# Altium footprint library Adams Altium Library.PcbLib: 250 footprints (part 10 of 16)
Each footprint in its own frame and in the unit in brackets; x right, y up, seen from the top. Pads: shape width x height; smd on the part's side, far side on the other; paste and mask are expansions set on the pad; w line width, h text height; cw(c..) or ccw(c..) is an arc to the next point about the centre after c.
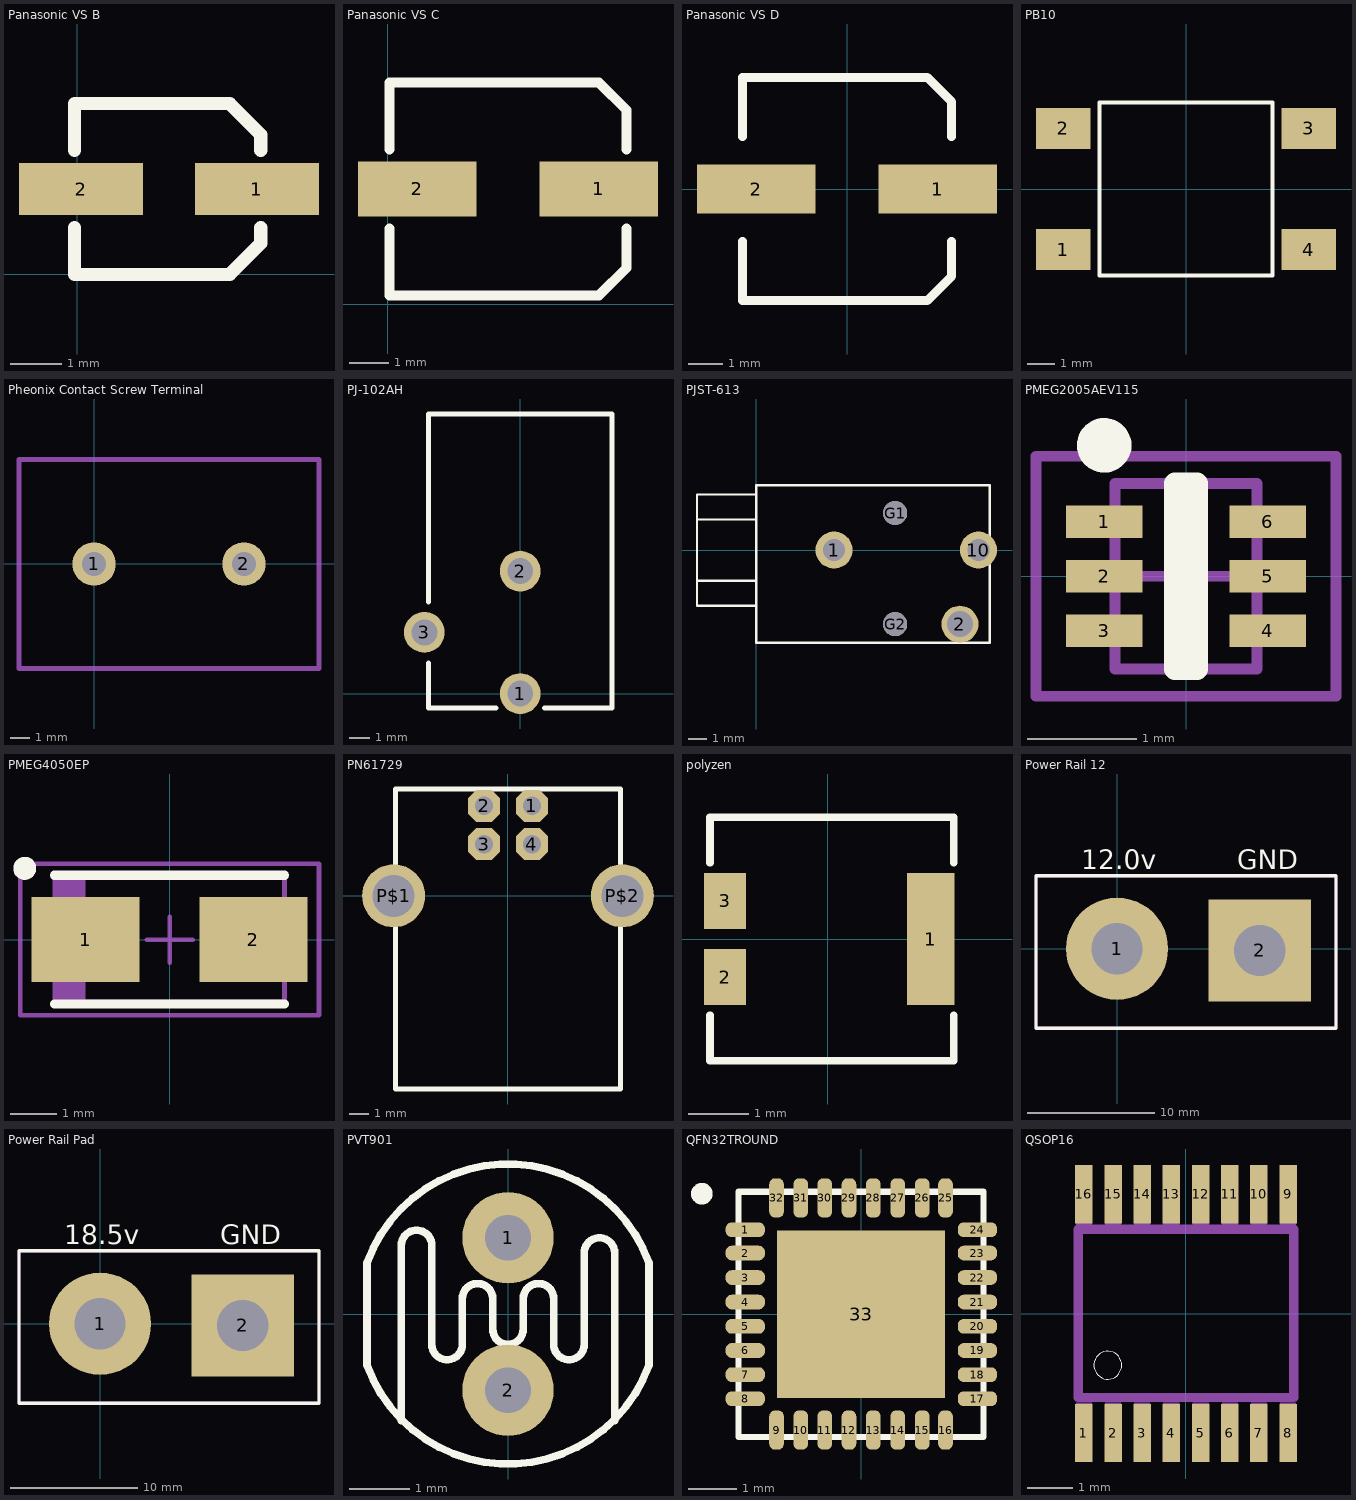
[diagram p9: the footprints below, top view; thin cyan lines are the x and y axes]

## Panasonic VS B [mm]
pads (2):
  rect 2.4x1 smd: 1(3.478,1.651) 2(0.078,1.651)
Top Overlay:
  lines w0.254: -0.047,0.901 -0.047,0.001 2.953,0.001 3.553,0.601 3.553,0.901 ; -0.047,2.401 -0.047,3.301 2.953,3.301 3.553,2.701 3.553,2.401

## Panasonic VS C [mm]
pads (2):
  rect 3x1.4 smd: 1(5.348,2.921) 2(0.748,2.921)
Top Overlay:
  lines w0.254: 0.048,1.921 0.048,0.221 5.348,0.221 6.048,0.921 6.048,1.921 ; 0.048,3.921 0.048,5.621 5.348,5.621 6.048,4.921 6.048,3.921
3D body: height 5.41, standoff 0, extent 0.098,0.288 5.998,5.588

## Panasonic VS D [mm]
pads (2):
  rect 3.4x1.4 smd: 1(2.6,0) 2(-2.6,0)
Top Overlay:
  lines w0.254: -3,-1.5 -3,-3.2 2.3,-3.2 3,-2.5 3,-1.5 ; -3,1.5 -3,3.2 2.3,3.2 3,2.5 3,1.5
3D body: height 5.4, standoff 0, extent -3.5,-3.3 3.5,3.3

## PB10 [mm]
pads (4):
  rect 2x1.5 smd paste-0.15 mask-0.15: 1(-4.5,-2.222) 2(-4.5,2.222) 3(4.5,2.222) 4(4.5,-2.222)
Top Overlay:
  lines w0.152: -3.175,-3.175 -3.175,3.175 3.175,3.175 3.175,-3.175 -3.175,-3.175

## Pheonix Contact Screw Terminal [mm]
height 18
pads (2):
  round 2.2 hole 1.2: 1(0,0) 2(7.61,0)
Mechanical 13:
  lines w0.254: -3.81,-5.3 -3.81,5.3 11.42,5.3 11.42,-5.3 -3.81,-5.3

## PJ-102AH [mm] "Center positive 2.1 mm power jack"
height 11
pads (3):
  round 2 hole 1.27: 1(0,0) 2(0,6) 3(-4.7,3)
Top Overlay:
  lines w0.254: -4.5,1.5 -4.5,-0.7 -1.2,-0.7 ; -4.5,4.5 -4.5,13.7 4.5,13.7 4.5,-0.7 1.2,-0.7
3D body: height 11, standoff 0, extent -5.8,-0.7 4.5,13.7

## PJST-613 [mm]
pads (5):
  round 2 hole 1.2: 1(4.2,0) 10(12,0)
  round 2 hole 1.4: 2(11,-4)
  round 1.3 hole 1.3 unplated: G1(7.5,2) G2(7.5,-4)
Top Overlay:
  lines w0.127: -3.2,-1.651 0,-1.651 ; -3.175,1.651 0,1.651 ; 0,-3.008 -3.2,-3.008 -3.2,3.006 0,3.006 ; 0,-5 12.6,-5 12.6,3.5 0,3.5 0,-5

## PMEG2005AEV115 [mm] "SOT23, 6-Leads, Body 1.7x1.7mm (max), Pitch 0.50mm, IPC Medium Density"
height 0.6
pads (6):
  rect 0.7x0.3 smd: 1(-0.75,0.5) 2(-0.75,0) 3(-0.75,-0.5) 4(0.75,-0.5) 5(0.75,0) 6(0.75,0.5)
Top Overlay:
  circle w0.25: c-0.75,1.2 r0.125
  lines w0.2: -0.1,-0.85 -0.1,0.85 0.1,0.85 0.1,-0.85 -0.1,-0.85
Mechanical 13:
  lines w0.1: -0.65,-0.85 0.65,-0.85 0.65,0.85 -0.65,0.85 -0.65,-0.85
Mechanical 15:
  lines w0.1: -0.5,0 0.5,0 ; 0,-0.5 0,0.5 ; -1.375,-1.1 1.375,-1.1 1.375,1.1 -1.375,1.1 -1.375,-1.1
3D body: height 0.6, standoff 0.5, extent -0.65,-0.85 0.65,0.85

## PMEG4050EP [mm] "PMEG4050EP NXP SMD Schottky Diode"
height 1.1
pads (2):
  rect 2.35x1.85 smd: 1(-1.825,0) 2(1.825,0)
Top Overlay:
  circle w0.25: c-3.15,1.55 r0.125
  lines w0.2: -2.5,-1.4 2.5,-1.4 ; -2.5,1.4 2.5,1.4
Mechanical 13:
  rectangle: -2.5,-1.35 -1.827,1.35
  lines w0.1: -2.5,-1.35 -2.5,1.35 2.5,1.35 2.5,-1.35 -2.5,-1.35
Mechanical 15:
  lines w0.1: -0.5,0 0.5,0 ; 0,-0.5 0,0.5 ; -3.25,-1.65 -3.25,1.65 3.25,1.65 3.25,-1.65 -3.25,-1.65
3D body: height 1.1, standoff 0, extent -2.5,-1.35 2.5,1.35

## PN61729 [mil]
pads (6):
  oct 66x66 hole 38: 1(50,186) 2(-49.21,186) 3(-49.21,107) 4(50,107)
  round 130.5 hole 87: P$1(-236.22,0) P$2(237,0)
Top Overlay:
  lines w10: -232.28,-399.61 -232.28,221 233,221 233,-399.61 -232.28,-399.61
3D body: height 405.51, standoff 27.56, extent -237.28,-404.61 238,226

## polyzen [mm]
pads (3):
  rect 0.8x2.21 smd: 1(1.714,0)
  rect 0.7x0.94 smd: 2(-1.714,-0.635) 3(-1.714,0.635)
Top Overlay:
  lines w0.127: -1.968,-1.27 -1.968,-2.032 2.095,-2.032 2.095,-1.27 ; -1.968,1.27 -1.968,2.032 2.095,2.032 2.095,1.27

## Power Rail 12 [mm]
pads (2):
  round 8 hole 4: 1(0,0)
  rect 8x8 hole 4: 2(11.176,-0.127)
Top Overlay:
  lines w0.254: -6.35,-6.223 17.145,-6.223 17.145,5.715 -6.35,5.715 -6.35,-6.096 -6.35,-6.223
  text "12.0v" at -2.794,6.223 h1.52
  text "GND" at 9.398,6.223 h1.52
Mechanical 13:
  lines w0.254: -6.35,-6.223 17.145,-6.223 17.145,5.715 -6.35,5.715 -6.35,-6.223

## Power Rail Pad [mm] "Custom pad for WAVE power rails"
pads (2):
  round 8 hole 4: 1(0,0)
  rect 8x8 hole 4: 2(11.176,-0.127)
Top Overlay:
  lines w0.254: -6.35,-6.223 17.145,-6.223 17.145,5.715 -6.35,5.715 -6.35,-6.096 -6.35,-6.223
  text "18.5v" at -2.794,6.223 h1.52
  text "GND" at 9.398,6.223 h1.52
Mechanical 13:
  lines w0.254: -6.35,-6.223 17.145,-6.223 17.145,5.715 -6.35,5.715 -6.35,-6.223

## PVT901 [mil]
pads (2):
  round 60 hole 30: 1(0,50) 2(0,-50)
Top Overlay:
  lines w5: -70,-70 -70,45 cw(c-60,45) -50,45 -50,35 -50,-20 ccw(c-40,-20) -30,-20 -30,10 cw(c-20,10) -10,10 -10,-10 ccw(c0,-10) 10,-10 10,10 cw(c20,10) 30,10 30,-20 ccw(c40,-20) 50,-20 50,40 cw(c60,40) 70,40 70,-70 ; -92.49,-33.66 ccw(c0,0) 92.49,-33.66 92.49,33.66 ccw(c0,0) -92.49,33.66 -92.49,-33.66

## QFN32TROUND [mil]
pads (33):
  rrect80% 32x12 smd: 1(-94.49,69) 2(-94.49,50) 3(-94.49,30) 4(-94.49,10) 5(-94.49,-9.84) 6(-94.49,-29.53) 7(-94.49,-49.21) 8(-94.49,-68.9) 17(95,-68.9) 18(95,-49.21) 19(95,-29.53) 20(95,-9.84) 21(95,10) 22(95,30) 23(95,50) 24(95,69)
  rrect80% 12x32 smd: 9(-68.9,-94.49) 10(-49.21,-94.49) 11(-29.53,-94.49) 12(-9.84,-94.49) 13(10,-94.49) 14(30,-94.49) 15(50,-94.49) 16(69,-94.49) 25(69,95) 26(50,95) 27(30,95) 28(10,95) 29(-9.84,95) 30(-29.53,95) 31(-49.21,95) 32(-68.9,95)
  rect 137x137 smd: 33(0,0)
Top Overlay:
  circle w9.84: c-129.92,98.43 r3.94
  lines w5: -100,-100 100,-100 100,100 -100,100 -100,-100
Top Paste:
  region: -29.53,63 -7.87,63 -7.87,52 -13.78,46 -25.59,46 -29.53,50
  region: 8,12 8,26 12,30 26,30 30,26 30,12 26,8 12,8
  region: -29.53,12 -29.53,26 -25.59,30 -11.81,30 -7.87,26 -7.87,12 -11.81,8 -25.59,8
  region: 8,-25.59 8,-11.81 12,-7.87 26,-7.87 30,-11.81 30,-25.59 26,-29.53 12,-29.53
  region: -29.53,-25.59 -29.53,-11.81 -25.59,-7.87 -11.81,-7.87 -7.87,-11.81 -7.87,-25.59 -11.81,-29.53 -25.59,-29.53
  region: 10,63 32,63 32,52 26,46 14,46 10,50
  region: 63,63 63,44 54,44 46,52 46,63
  region: -62.99,63 -43.31,63 -43.31,54 -51.18,46 -62.99,46
  region: -62.99,8 -62.99,30 -51.18,30 -45.28,24 -45.28,12 -49.21,8
  region: 63,28 63,6 52,6 46,12 46,24 50,28
  region: 63,-62.99 44,-62.99 44,-53.15 52,-45.28 63,-45.28
  region: 63,-9.84 63,-31.5 52,-31.5 46,-25.59 46,-13.78 50,-9.84
  region: 30,-62.99 8,-62.99 8,-51.18 14,-45.28 26,-45.28 30,-49.21
  region: -7.87,-62.99 -29.53,-62.99 -29.53,-51.18 -23.62,-45.28 -11.81,-45.28 -7.87,-49.21
  region: -62.99,-27.56 -62.99,-5.91 -51.18,-5.91 -45.28,-11.81 -45.28,-23.62 -49.21,-27.56
  region: -62.99,-62.99 -62.99,-43.31 -53.15,-43.31 -45.28,-51.18 -45.28,-62.99
Top Solder:
  drawing of 37 lines, arcs and shapes, not listed
3D body: height 39.37, standoff 0, extent -111.83,-111.83 112.5,112.5

## QSOP16 [mil]
pads (16):
  rect 15x50 smd: 1(-87.5,-102.36) 2(-62.5,-102.36) 3(-37.5,-102.36) 4(-12.5,-102.36) 5(13,-102.36) 6(38,-102.36) 7(63,-102.36) 8(88,-102.36) 9(88,103) 10(63,103) 11(38,103) 12(13,103) 13(-12.5,103) 14(-37.5,103) 15(-62.5,103) 16(-87.5,103)
Top Overlay:
  circle w0: c-67,-44 r12
Top Solder:
  region: -81,125 -94,125 -94,79 -81,79
  region: -79,129 -96,129 -96,76 -79,76
  region: -56,125 -69,125 -69,79 -56,79
  region: -54,129 -71,129 -71,76 -54,76
  region: -31,125 -44,125 -44,79 -31,79
  region: -29,129 -46,129 -46,76 -29,76
  region: -6,125 -19,125 -19,79 -6,79
  region: -4,129 -21,129 -21,76 -4,76
  region: 19,125 6,125 6,79 19,79
  region: 21,129 4,129 4,76 21,76
  region: 44,125 31,125 31,79 44,79
  region: 46,129 29,129 29,76 46,76
  region: 69,125 56,125 56,79 69,79
  region: 71,129 54,129 54,76 71,76
  region: 94,125 81,125 81,79 94,79
  region: 96,129 79,129 79,76 96,76
  rectangle: 81,-125 94,-79
  rectangle: 79,-129 96,-76
  rectangle: 56,-125 69,-79
  rectangle: 54,-129 71,-76
  rectangle: 31,-125 44,-79
  rectangle: 29,-129 46,-76
  rectangle: 6,-125 19,-79
  rectangle: 4,-129 21,-76
  rectangle: -19,-125 -6,-79
  rectangle: -21,-129 -4,-76
  rectangle: -44,-125 -31,-79
  rectangle: -46,-129 -29,-76
  rectangle: -69,-125 -56,-79
  rectangle: -71,-129 -54,-76
  rectangle: -94,-125 -81,-79
  rectangle: -96,-129 -79,-76
Mechanical 16:
  region: -80.5,123 -94.5,123 -94.5,76 -80.5,76
  region: -55.5,123 -69.5,123 -69.5,76 -55.5,76
  region: -30.5,123 -44.5,123 -44.5,76 -30.5,76
  region: -5.5,123 -19.5,123 -19.5,76 -5.5,76
  region: 20,123 6,123 6,76 20,76
  region: 45,123 31,123 31,76 45,76
  region: 70,123 56,123 56,76 70,76
  region: 95,123 81,123 81,76 95,76
  rectangle: 81,-122.05 95,-76
  rectangle: 56,-122.05 70,-76
  rectangle: 31,-122.05 45,-76
  rectangle: 6,-122.05 20,-76
  rectangle: -19.5,-122.05 -5.5,-76
  rectangle: -44.5,-122.05 -30.5,-76
  rectangle: -69.5,-122.05 -55.5,-76
  rectangle: -94.5,-122.05 -80.5,-76
  lines w8: -92.49,-71.8 -92.49,73 93,73 93,-55.12 93,-71.8 -92.49,-71.8
3D body: height 64.96, standoff 0, extent -95,-75 95,75
3D body: height 9.84, standoff 0, extent -95,-125 -80,-75
3D body: height 9.84, standoff 0, extent -70,-125 -55,-75
3D body: height 9.84, standoff 0, extent -45,-125 -30,-75
3D body: height 9.84, standoff 0, extent -20,-125 -5,-75
3D body: height 9.84, standoff 0, extent 5,-125 20,-75
3D body: height 9.84, standoff 0, extent 30,-125 45,-75
3D body: height 9.84, standoff 0, extent 55,-125 70,-75
3D body: height 9.84, standoff 0, extent 80,-125 95,-75
3D body: height 9.84, standoff 0, extent 80,75 95,125
3D body: height 9.84, standoff 0, extent 55,75 70,125
3D body: height 9.84, standoff 0, extent 30,75 45,125
3D body: height 9.84, standoff 0, extent 5,75 20,125
3D body: height 9.84, standoff 0, extent -20,75 -5,125
3D body: height 9.84, standoff 0, extent -45,75 -30,125
3D body: height 9.84, standoff 0, extent -70,75 -55,125
3D body: height 9.84, standoff 0, extent -95,75 -80,125